# Altium integrated library ElectronicSwitches.IntLib: 2 symbols
Pins are listed as number, name and electrical type; pins without a type are passive.

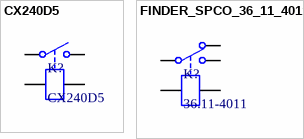
[diagram p0: symbols CX240D5 to FINDER_SPCO_36_11_4011]

## CX240D5
designator K?
5A, 240Vrms Solid State Relay; PartNumber: CX240D5
footprint CX240D5 (Footprint for CX240D5 SSR)
pins: 1, 2, 3, 4

## FINDER_SPCO_36_11_4011
designator K?, comment 36.11-4011
10A, 240Vrms SPCO Relay; PartNumber: 36.11-4011; Supplier 1: Farnell; Supplier Part Number 1: 2311438
footprint FINDER_36_SPCO (Finder 36 series SPCO layout)
pins: 3 A1, 4 A2, 11 1, 12 2, 14 2